# EAGLE library part TS5A23159 (library analog)
TS5A23159 Dual SPDT Analog Switch
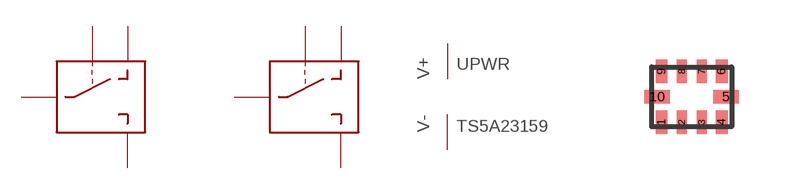
[diagram p6: symbol with the pads of R-PUQFN-N10; footprint R-PUQFN-N10]

Designator prefix -; gates PWR=PWR+- SW1=SPDT_SWITCH_CTL SW2=SPDT_SWITCH_CTL

## TS5A23159  [R-PUQFN-N10]
1  SW1:CTL
2  SW1:OPEN
3  PWR:GND  pwr
4  SW2:OPEN
5  SW2:CTL
6  SW2:COMMON
7  SW2:CLOSED
8  PWR:V+  pwr
9  SW1:CLOSED
10  SW1:COMMON

## Footprint R-PUQFN-N10 (pad centres in mm)
smd 0.3 x 0.58: 1 -0.75,-0.635; 4 0.75,-0.635; 6 0.75,0.635; 9 -0.75,0.635
smd 0.25 x 0.58: 2 -0.25,-0.635; 3 0.25,-0.635; 7 0.25,0.635; 8 -0.25,0.635
smd 0.63 x 0.35: 5 0.86,0; 10 -0.86,0